# EAGLE library part RKJXT1F42001 (library RKJXT1F42001)
Multi-Directional Switches 4 drectnl swtch cntr push w/ an encoder Source: Datasheet <http://www.alps.com/prod/info/E/HTML/MultiControl/Switch/RKJXT/RKJXT1F42001.html>
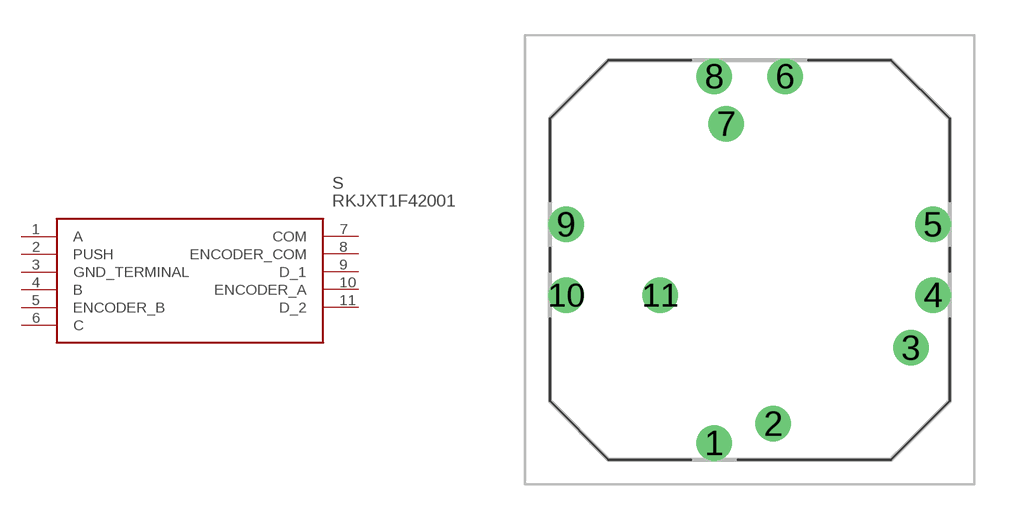
[diagram p0: symbol with the pads of RKJXT1F42001; footprint RKJXT1F42001]

Designator prefix S

## RKJXT1F42001 (Description: Multi-Directional Switches 4 drectnl swtch cntr push w/ an encoder; Height: 17mm; Manufacturer_Name: ALPS Electric; Manufacturer_Part_Number: RKJXT1F42001; Mouser_Part_Number: 688-RKJXT1F42001; Mouser_Price-Stock: https://www.mouser.co.uk/ProductDetail/Alps-Alpine/RKJXT1F42001?qs=6EGMNY9ZYDTsBzSTrhiL0w%3D%3D)  [RKJXT1F42001]
1  A
2  PUSH
3  GND_TERMINAL
4  B
5  ENCODER_B
6  C
7  COM
8  ENCODER_COM
9  D_1
10  ENCODER_A
11  D_2

## Footprint RKJXT1F42001 (pad centres in mm)
RKJXT1F42001
drill 1 pad 1.5: 1 -1.5,-7.8; 2 1,-6.98; 3 6.86,-3.75; 4 7.8,-1.5; 5 7.8,1.5; 6 1.5,7.8; 7 -1,5.78; 8 -1.5,7.8; 9 -7.8,1.5; 10 -7.8,-1.5; 11 -3.8,-1.5